# Altium schematic symbol library BMS_schematic_diy.SchLib: 1 symbol
Pins are listed as number, name and electrical type; pins without a type are passive.

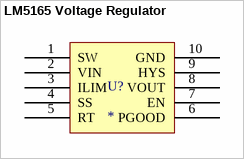
[diagram p0: symbol LM5165 Voltage Regulator]

## LM5165 Voltage Regulator
designator U?
pins: 1 SW, 2 VIN, 3 ILIM, 4 SS, 5 RT, 6 PGOOD, 7 EN, 8 VOUT, 9 HYS, 10 GND